# Altium footprint library APF控制.pcblib: 35 footprints (part 3 of 3)
Each footprint in its own frame and in the unit in brackets; x right, y up, seen from the top. Pads: shape width x height; smd on the part's side, far side on the other; paste and mask are expansions set on the pad; w line width, h text height; cw(c..) or ccw(c..) is an arc to the next point about the centre after c.
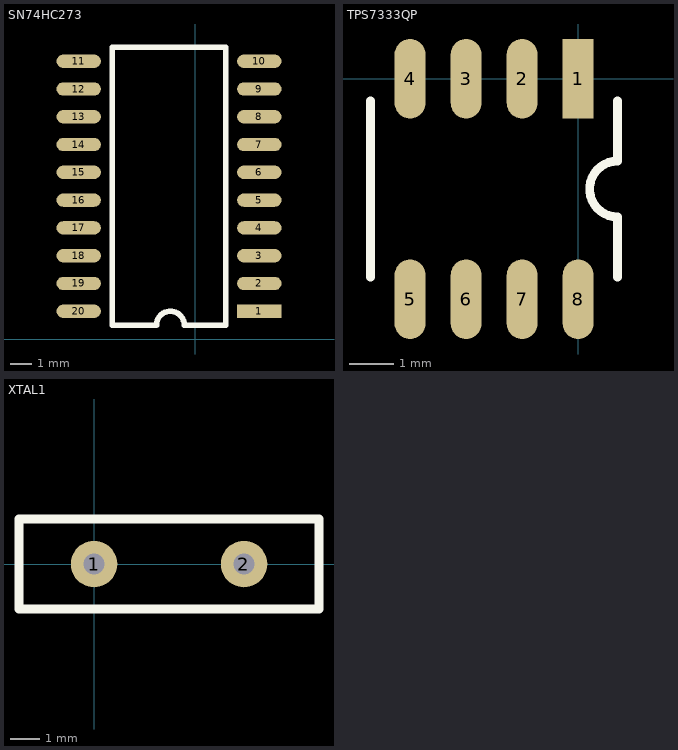
[diagram p2: the footprints below, top view; thin cyan lines are the x and y axes]

## SN74HC273 [mil]
pads (20):
  rect 80x24 smd: 1(115,50)
  oval 80x24 smd: 2(115,100) 3(115,150) 4(115,200) 5(115,250) 6(115,300) 7(115,350) 8(115,400) 9(115,450) 10(115,500) 11(-210,500) 12(-210,450) 13(-210,400) 14(-210,350) 15(-210,300) 16(-210,250) 17(-210,200) 18(-210,150) 19(-210,100) 20(-210,50)
TopOverlay:
  lines w10: -150,25 -70,25 cw(c-45,25) -20,25 55,25 55,525 -150,525 -150,25

## TPS7333QP [mm]
pads (8):
  rect 0.7x1.8 smd: 1(0,0)
  oval 0.7x1.8 smd: 2(-1.27,0) 3(-2.54,0) 4(-3.81,0) 5(-3.81,-5) 6(-2.54,-5) 7(-1.27,-5) 8(0,-5)
TopOverlay:
  lines w0.2: -4.705,-4.5 -4.705,-0.5 ; 0.895,-4.5 0.895,-3.135 cw(c0.895,-2.5) 0.895,-1.865 0.895,-0.5

## XTAL1 [mil]
pads (2):
  round 62 hole 28: 1(0,0) 2(200,0)
TopOverlay:
  lines w12: -100,-60 -100,60 300,60 300,-60 -100,-60